# Altium schematic symbol library car_sch_lib.SchLib: 23 symbols
Pins are listed as number, name and electrical type; pins without a type are passive.

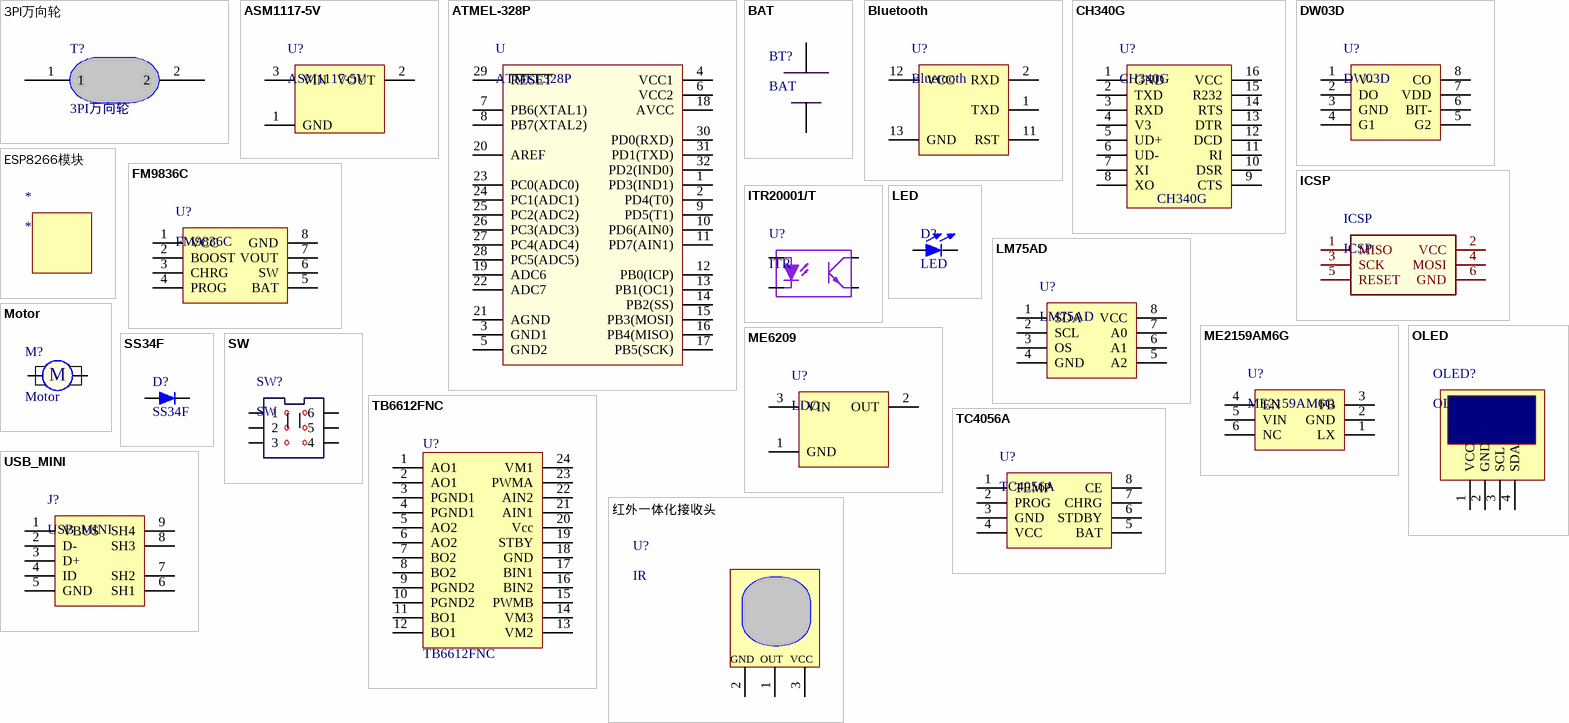
[diagram p0: symbols 3PI万向轮 to 红外一体化接收头]

## 3PI万向轮
designator T?
footprint 万向轮
pins: 1, 2

## ASM1117-5V
designator U?
ASM117
footprint SOT-223 (ASM1117,)
pins: 1 GND, 2 VOUT, 3 VIN

## ATMEL-328P
designator U, comment ATMEL328P
footprint TQFP 32 (ATMEL 328P)
pins: 1 PD3(IND1) (oc), 2 PD4(T0) (oc), 3 GND1 (oc), 4 VCC1 (power), 5 GND2 (oc), 6 VCC2 (power), 7 PB6(XTAL1) (oc), 8 PB7(XTAL2) (oc), 9 PD5(T1) (oc), 10 PD6(AIN0) (oc), 11 PD7(AIN1) (oc), 12 PB0(ICP) (oc), 13 PB1(OC1) (oc), 14 PB2(SS) (oc), 15 PB3(MOSI) (oc), 16 PB4(MISO) (oc), 17 PB5(SCK) (oc), 18 AVCC (power), 19 ADC6 (oc), 20 AREF (oc), 21 AGND (oc), 22 ADC7 (oc), 23 PC0(ADC0) (oc), 24 PC1(ADC1) (oc), 25 PC2(ADC2) (oc), 26 PC3(ADC3) (oc), 27 PC4(ADC4) (oc), 28 PC5(ADC5) (oc), 29 ~{RESET} (oc), 30 PD0(RXD) (oc), 31 PD1(TXD) (oc), 32 PD2(IND0) (oc)

## BAT
designator BT?
footprint 电池盒_一节
pins: 1, 2

## Bluetooth
designator U?
蓝牙模块
footprint HC-08
pins: 1 TXD, 2 RXD, 11 RST, 12 VCC, 13 GND

## CH340G
designator U?
footprint SOP16 (CH340G)
pins: 1 GND, 2 TXD, 3 RXD, 4 V3, 5 UD+, 6 UD-, 7 XI, 8 XO, 9 CTS, 10 DSR, 11 RI, 12 DCD, 13 DTR, 14 RTS, 15 R232, 16 VCC

## DW03D
designator U?
锂电池保护芯片
footprint TSOP8 (TSOP, 8-Leads, Body 3.00x4.40mm, Pitch 0.65mm, IPC Medium Density)
pins: 1 V-, 2 DO, 3 GND, 4 G1, 5 G2, 6 BIT-, 7 VDD, 8 CO

## ESP8266模块
designator *

## FM9836C
designator U?
footprint SOP8 (SOP, 8-Leads, Body 4.90x3.90mm, Pitch 1.27mm, Thermal Pad 4.50x3.40mm, IPC Medium Density)
pins: 1 VCC, 2 BOOST, 3 CHRG, 4 PROG, 5 BAT, 6 SW, 7 VOUT, 8 GND

## ICSP
designator ICSP
footprint HDR2X3
pins: 1 MISO (oc) "1", 2 VCC "2", 3 SCK (oc) "3", 4 MOSI (oc) "4", 5 RESET (oc) "5", 6 GND (oc) "6"

## ITR20001/T
designator U?, comment ITR
footprint DIP4
pins: 1, 2, 3, 4

## LED
designator D?
footprint LED_0805 (Chip LED  Body 2.0x1.2mm, IPC Medium Density)
pins: 1, 2

## LM75AD
designator U?
温度传感器
footprint SOP8 - noHotPad (SOP, 8-Leads, Body 4.90x3.90mm, Pitch 1.27mm, Thermal Pad 4.50x3.40mm, IPC Medium Density)
pins: 1 SDA, 2 SCL, 3 OS, 4 GND, 5 A2, 6 A1, 7 A0, 8 VCC

## ME2159AM6G
designator U?
锂电池升压芯片
footprint SOT-23-6 (SX1308)
pins: 1 LX, 2 GND, 3 FB, 4 EN, 5 VIN, 6 NC

## ME6209
designator U?, comment LDO
3.3V LDO
footprint SOT-23-3L
pins: 1 GND, 2 OUT, 3 VIN

## Motor
designator M?
footprint Motor1
pins: 1, 2
text: M

## OLED
designator OLED?
I2C OLED
footprint HDR1X4
footprint OLED
pins: 1 VCC, 2 GND, 3 SCL, 4 SDA

## SS34F
designator D?
Schottky Diode
footprint SS34F - DIOM3426X12N (Molded Diode, 2-Leads, Body 3.45x2.60mm, IPC Medium Density)
pins: 1, 2 1

## SW
designator SW?
自锁开关
footprint KEY_ZS_5.8*5.8
pins: 1, 2, 3, 4, 5, 6

## TB6612FNC
designator U?
footprint TB6612FNG
pins: 1 AO1, 2 AO1, 3 PGND1, 4 PGND1, 5 AO2, 6 AO2, 7 BO2, 8 BO2, 9 PGND2, 10 PGND2, 11 BO1, 12 BO1, 13 VM2, 14 VM3, 15 PWMB, 16 BIN2, 17 BIN1, 18 GND, 19 STBY, 20 Vcc, 21 AIN1, 22 AIN2, 23 PWMA, 24 VM1

## TC4056A
designator U?
1A线性充电芯片
footprint TC4056A (SOP, 8-Leads, Body 4.90x3.90mm, Pitch 1.27mm, Thermal Pad 3.40x2.51mm, IPC Medium Density)
pins: 1 TEMP, 2 PROG, 3 GND, 4 VCC, 5 BAT, 6 STDBY, 7 CHRG, 8 CE

## USB_MINI
designator J?
usb
footprint MICRO_USB
pins: 1 VBUS, 2 D-, 3 D+, 4 ID, 5 GND, 6 SH1, 7 SH2, 8 SH3, 9 SH4

## 红外一体化接收头
designator U?, comment IR
footprint HDR1X3
pins: 1 VCC, 2 VCC, 3 VCC
text: GND; OUT